# EAGLE library part SN74AVC4T245 (library Particle)
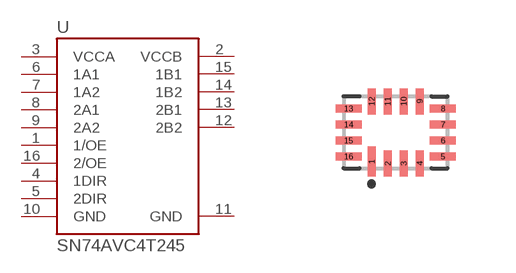
[diagram p39: symbol with the pads of UFQFN-16; footprint UFQFN-16]

Designator prefix U

## SN74AVC4T245  [UFQFN-16]
1  1/OE
2  VCCB
3  VCCA
4  1DIR
5  2DIR
6  1A1
7  1A2
8  2A1
9  2A2
10  GND
11  GND
12  2B2
13  2B1
14  1B2
15  1B1
16  2/OE

## Footprint UFQFN-16 (pad centres in mm)
UFQFN-16
smd 0.2 x 0.75: 1 -0.6,-0.73
smd 0.2 x 0.65: 2 -0.2,-0.78; 3 0.2,-0.78; 4 0.6,-0.78; 9 0.6,0.78; 10 0.2,0.78; 11 -0.2,0.78; 12 -0.6,0.78
smd 0.65 x 0.2: 5 1.18,-0.6; 6 1.18,-0.2; 7 1.18,0.2; 8 1.18,0.6; 13 -1.18,0.6; 14 -1.18,0.2; 15 -1.18,-0.2; 16 -1.18,-0.6